# Altium schematic symbol library AltiumLib_V1.SchLib: 2 symbols
Pins are listed as number, name and electrical type; pins without a type are passive.

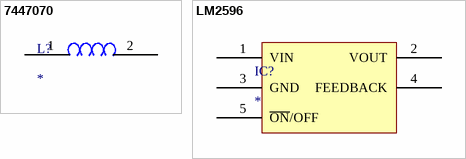
[diagram p0: symbols 7447070 to LM2596]

## 7447070
designator L?
footprint 7447070 (0.984" Dia x 0.433" W (25.00mm x 11.00mm))
pins: 1, 2

## LM2596
designator IC?
footprint D2PAK-LM2596
pins: 1 VIN, 2 VOUT, 3 GND, 4 FEEDBACK, 5 ~{ON}/OFF